# Altium schematic symbol library currentandvoltagemeasure.SchLib: 4 symbols
Pins are listed as number, name and electrical type; pins without a type are passive.

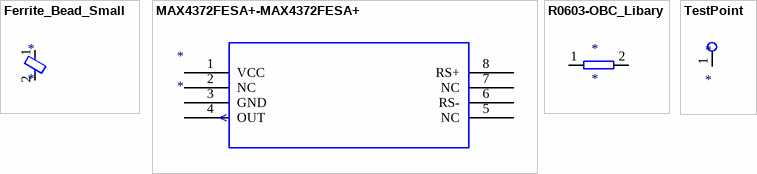
[diagram p0: symbols Ferrite_Bead_Small to TestPoint]

## Ferrite_Bead_Small
designator *
pins: 1, 2

## MAX4372FESA+-MAX4372FESA+
designator *
pins: 1 VCC, 2 NC, 3 GND, 4 OUT, 5 NC, 6 RS-, 7 NC, 8 RS+

## R0603-OBC_Libary
designator *
pins: 1, 2

## TestPoint
designator *
pins: 1